# Altium integrated library TLP521-1.IntLib: 1 symbol
Pins are listed as number, name and electrical type; pins without a type are passive.

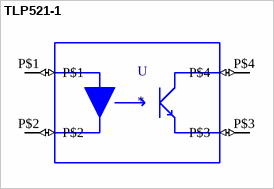
[diagram p0: symbol TLP521-1]

## TLP521-1
designator U
ICM006; MP: TLP521-1; MF: Isocom; Package: None; Availability: Unavailable; SnapEDA_Link: https://www.snapeda.com/parts/TLP521-1/Isocom/view-part/918682/?ref=snap; Price: None; Value: *
footprint TLP521-1
pins: P$1 (io), P$2 (io), P$3 (io), P$4 (io)